# EAGLE library part ARDUINO_NANO_FOOTPRINT (library eRCaGuy-General)
Arduino Nano footprint--for soldering a Nano onto a PCB Created By Gabriel Staples www.ElectricRCAircraftGuy.com Created: 10 Nov 2016 Last Updated: 11 Nov 2016 Device for representing an Arduino Nano board with a footprint in an EAGLE design. Originally created by Dave Young for Element14. More EAGLE documentation at: http://www.element14.com/community/community/knode/cadsoft_eagle. Edited by Gabriel Staples Nov 2016 to remove the ICSP header and USB pins, so that it can be used as a female receptacle part on a PCB, to accept a plugged-in Arduino Nano.
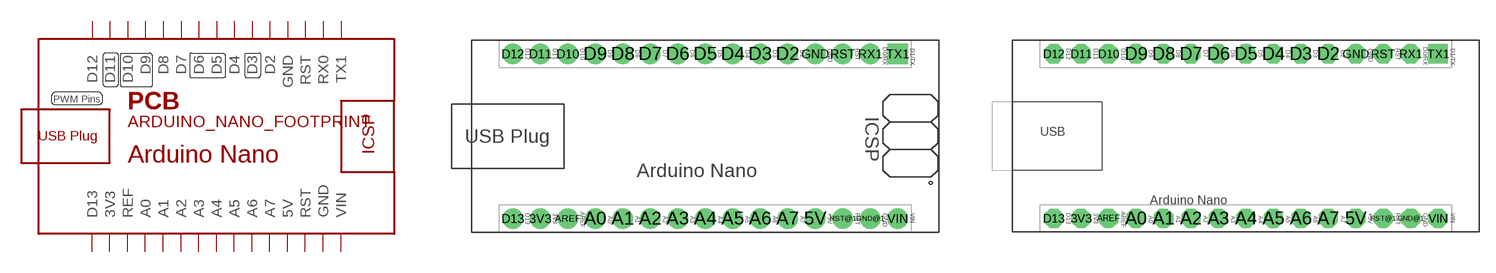
[diagram p0: symbol with the pads of ARDUINO_NANO_FOOTPRINT; footprints ARDUINO_NANO_FOOTPRINT, ARDUINO_NANO_FOOTPRINT_LESS_SILK_SMALLER_PADS]

Designator prefix PCB

## ARDUINO_NANO_FOOTPRINT_REGULAR  [ARDUINO_NANO_FOOTPRINT]
3V3  3V3  pwr
5V  5V  pwr
A0  A0
A1  A1
A2  A2
A3  A3
A4  A4
A5  A5
A6  A6
A7  A7
AREF  REF
D2  D2
D3  D3
D4  D4
D5  D5
D6  D6
D7  D7
D8  D8
D9  D9
D10  D10
D11  D11
D12  D12
D13  D13
GND  GND  pwr
GND@1  GND  pwr
RST  RST
RST@1  RST
RX1  RX0
TX1  TX1
VIN  VIN  pwr

## ARDUINO_NANO_FOOTPRINT_SMALLER_PADS  [ARDUINO_NANO_FOOTPRINT_LESS_SILK_SMALLER_PADS]
Pads as for ARDUINO_NANO_FOOTPRINT

## Footprint ARDUINO_NANO_FOOTPRINT (pad centres in mm)
Footprint for representing an Arduino Nano board in an EAGLE schematic. Created by Dave Young for Element14. More EAGLE documentation at: http://www.element14.com/community/community/knode/cadsoft_eagle Edited by Gabriel Staples (www.ElectricRCAircraftGuy.com) Nov 2016 to remove the ICSP header and USB pins, so that it can be used as a female receptacle part on a PCB, to accept a plugged-in Arduino Nano.
drill 1.016 pad 1.88: 3V3 -15.24,-7.62; 5V 10.16,-7.62; A0 -10.16,-7.62; A1 -7.62,-7.62; A2 -5.08,-7.62; A3 -2.54,-7.62; A4 0,-7.62; A5 2.54,-7.62; A6 5.08,-7.62; A7 7.62,-7.62; AREF -12.7,-7.62; D2 7.62,7.62; D3 5.08,7.62; D4 2.54,7.62; D5 0,7.62; D6 -2.54,7.62; D7 -5.08,7.62; D8 -7.62,7.62; D9 -10.16,7.62; D10 -12.7,7.62; D11 -15.24,7.62; D12 -17.78,7.62; D13 -17.78,-7.62; GND 10.16,7.62; GND@1 15.24,-7.62; RST 12.7,7.62; RST@1 12.7,-7.62; RX1 15.24,7.62; VIN 17.78,-7.62
drill 1.016 pad 1.88 square: TX1 17.78,7.62

## Footprint ARDUINO_NANO_FOOTPRINT_LESS_SILK_SMALLER_PADS (pad centres in mm)
Footprint for representing an Arduino Nano board in an EAGLE schematic. Created by Dave Young for Element14. More EAGLE documentation at: http://www.element14.com/community/community/knode/cadsoft_eagle Edited by Gabriel Staples (www.ElectricRCAircraftGuy.com) Nov 2016 to remove the ICSP header and USB pins, so that it can be used as a female receptacle part on a PCB, to accept a plugged-in Arduino Nano.
drill 1.016 pad 1.778 octagon: 3V3 -15.24,-7.62; 5V 10.16,-7.62; A0 -10.16,-7.62; A1 -7.62,-7.62; A2 -5.08,-7.62; A3 -2.54,-7.62; A4 0,-7.62; A5 2.54,-7.62; A6 5.08,-7.62; A7 7.62,-7.62; AREF -12.7,-7.62; D2 7.62,7.62; D3 5.08,7.62; D4 2.54,7.62; D5 0,7.62; D6 -2.54,7.62; D7 -5.08,7.62; D8 -7.62,7.62; D9 -10.16,7.62; D10 -12.7,7.62; D11 -15.24,7.62; D12 -17.78,7.62; D13 -17.78,-7.62; GND 10.16,7.62; GND@1 15.24,-7.62; RST 12.7,7.62; RST@1 12.7,-7.62; RX1 15.24,7.62; VIN 17.78,-7.62
drill 1.016 pad 1.778 square: TX1 17.78,7.62